# EAGLE library part MTA09-100 (library matt con-amp)
AMP connector
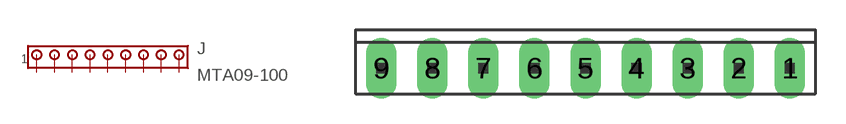
[diagram p125: symbol with the pads of 10X09MTA; footprint 10X09MTA]

Designator prefix J

## MTA09-100  [10X09MTA]
1  1  pas
2  2  pas
3  3  pas
4  4  pas
5  5  pas
6  6  pas
7  7  pas
8  8  pas
9  9  pas

## Footprint 10X09MTA (pad centres in mm)
AMP MTA connector Source: http://ecommas.tycoelectronics.com .. ENG_CD_640456_W.pdf
drill 1.016 long: 1 10.16,0; 2 7.62,0; 3 5.08,0; 4 2.54,0; 5 0,0; 6 -2.54,0; 7 -5.08,0; 8 -7.62,0; 9 -10.16,0